# Altium schematic symbol library Connector Power.SchLib: 62 symbols
Pins are listed as number, name and electrical type; pins without a type are passive.

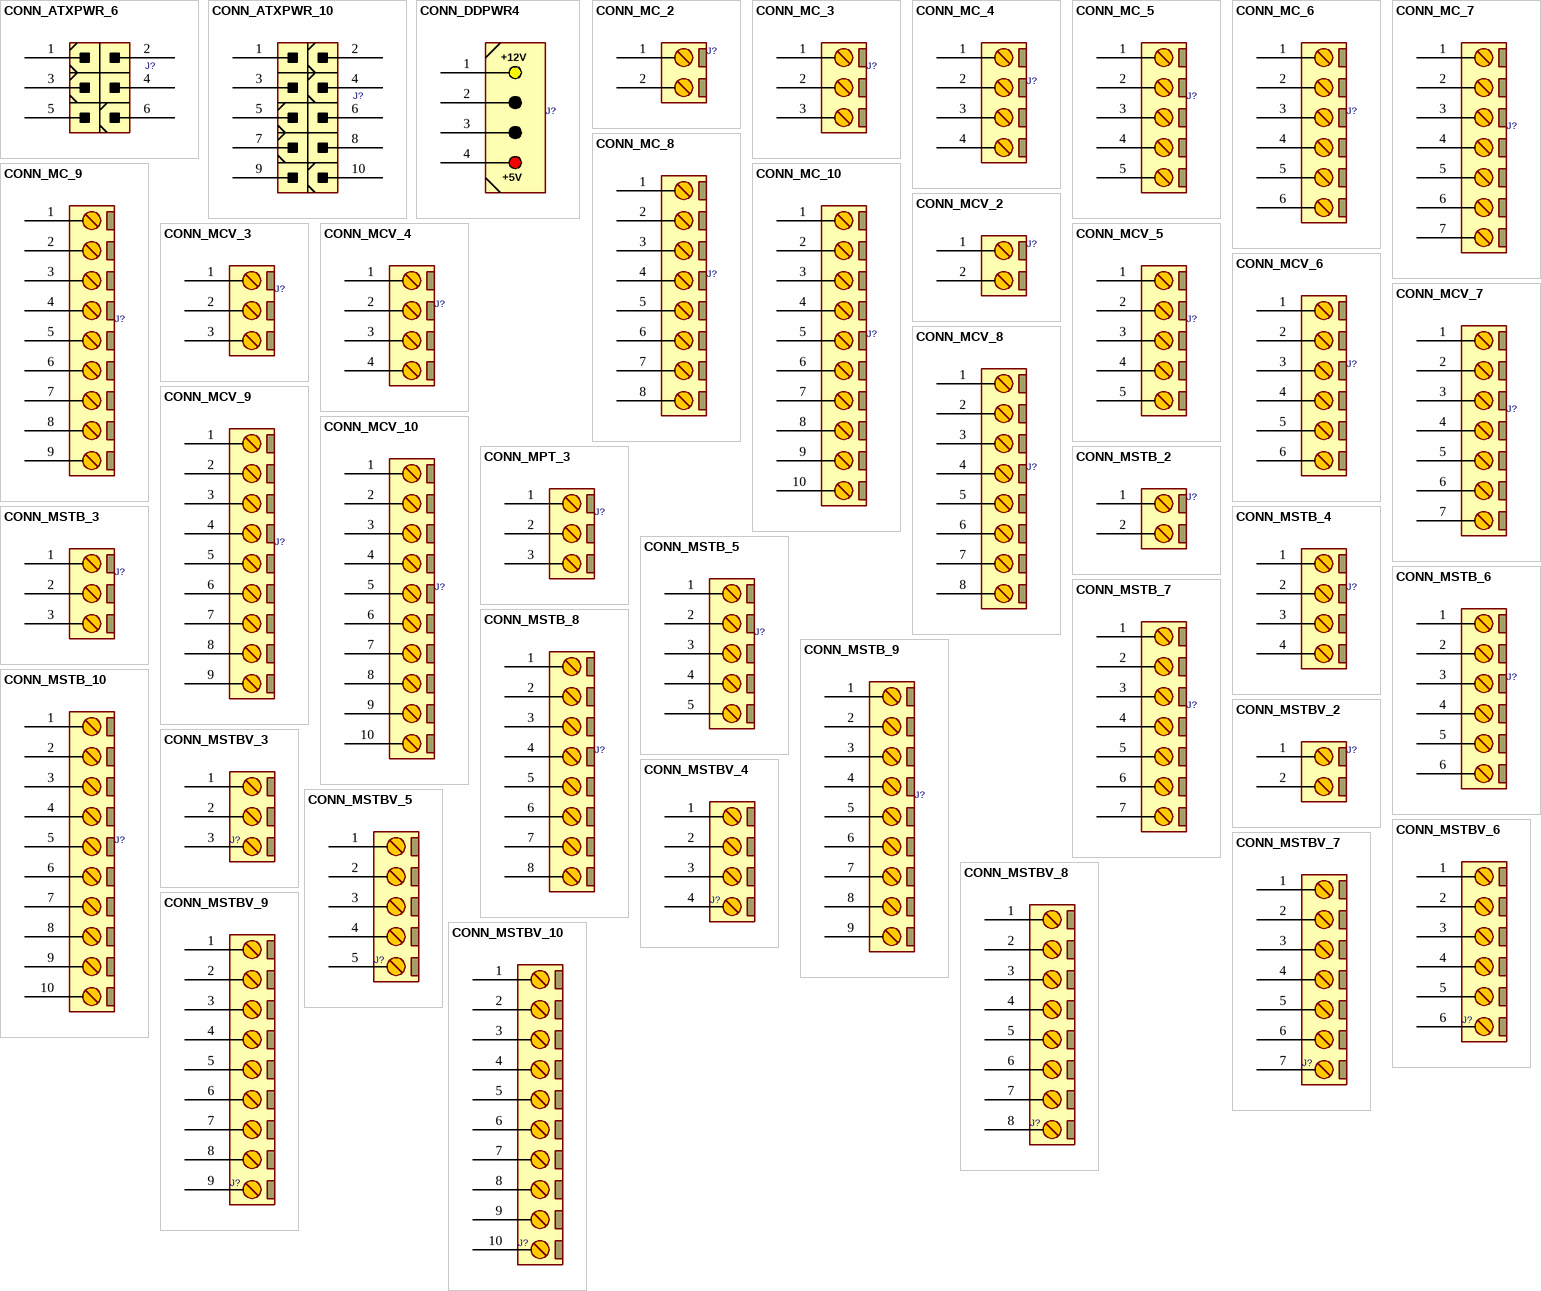
[diagram p0: symbols CONN_ATXPWR_6 to CONN_MSTBV_10]

## CONN_ATXPWR_6
designator J?  (value not drawn)
CONN, ATX POWER, 6 P; MANF: TE; MANF_P#: 4-1775099-1; VALUE: CONN_ATXPWR_6
footprint ATX_PWR6R (PCI Express POWER CONNECTOR 6PIN 12V Right Angle)
footprint ATX_PWR6 (Connector; ATX Power; 6 Position, TE 4-1775099-1)
pins: 1, 2, 3, 4, 5, 6

## CONN_ATXPWR_10
designator J?  (value not drawn)
CONN, ATX POWER, 10 P; MANF: TE; MANF_P#: 4-1775099-3; VALUE: CONN_ATXPWR_10
footprint ATX_PWR10 (Connector; ATX Power; 10 Position, TE 4-1775099-3)
pins: 1, 2, 3, 4, 5, 6, 7, 8, 9, 10

## CONN_DDPWR4
designator J?  (value not drawn)
CONN, DP04PR IDE DISK DRIVE 4pin; MANF: MOLEX; MANF_P#: 15-24-4745, 15-24-4449; VALUE: CONN_DDPWR4
footprint DDPWR4_S (DP04PR IDE DISK DRIVE 4pin power connector Straight Power Plug)
footprint DDPWR4_R (DP04PR IDE DISK DRIVE 4pin power connector Right Angle Power Plug)
pins: 1, 2, 3, 4
text: +12V; +5V

## CONN_MC_2
designator J?, comment CONN_MC2  (value not drawn)
CONN, PHOENIX MC 1.5/2-GF-3.81; VALUE: CONN_MC2; MANF_P#: MC 1.5/2-GF-3.81
footprint MC_2 (PHOENIX MC 1.5/2-GF-3.81)
pins: 1, 2

## CONN_MC_3
designator J?, comment CONN_MC3  (value not drawn)
CONN, PHOENIX MC 1.5/3-GF-3.81; VALUE: CONN_MC3; MANF_P#: MC 1.5/3-GF-3.81
footprint MC_3 (PHOENIX MC 1.5/3-GF-3.81)
pins: 1, 2, 3

## CONN_MC_4
designator J?, comment CONN_MC4  (value not drawn)
CONN, PHOENIX MC 1.5/4-GF-3.81; VALUE: CONN_MC4; MANF_P#: MC 1.5/4-GF-3.81
footprint MC_4 (PHOENIX MC 1.5/4-GF-3.81)
pins: 1, 2, 3, 4

## CONN_MC_5
designator J?, comment CONN_MC5  (value not drawn)
CONN, PHOENIX MC 1.5/5-GF-3.81; VALUE: CONN_MC5; MANF_P#: MC 1.5/5-GF-3.81
footprint MC_5 (PHOENIX MC 1.5/5-GF-3.81)
pins: 1, 2, 3, 4, 5

## CONN_MC_6
designator J?, comment CONN_MC6  (value not drawn)
CONN, PHOENIX MC 1.5/6-GF-3.81; VALUE: CONN_MC6; MANF_P#: MC 1.5/6-GF-3.81
footprint MC_6 (PHOENIX MC 1.5/6-GF-3.81)
pins: 1, 2, 3, 4, 5, 6

## CONN_MC_7
designator J?, comment CONN_MC7  (value not drawn)
CONN, PHOENIX MC 1.5/7-GF-3.81; VALUE: CONN_MC7; MANF_P#: MC 1.5/7-GF-3.81
footprint MC_7 (PHOENIX MC 1.5/7-GF-3.81)
pins: 1, 2, 3, 4, 5, 6, 7

## CONN_MC_8
designator J?, comment CONN_MC8  (value not drawn)
CONN, PHOENIX MC 1.5/8-GF-3.81; VALUE: CONN_MC8; MANF_P#: MC 1.5/8-GF-3.81
footprint MC_8 (PHOENIX MC 1.5/8-GF-3.81)
pins: 1, 2, 3, 4, 5, 6, 7, 8

## CONN_MC_9
designator J?, comment CONN_MC9  (value not drawn)
CONN, PHOENIX MC 1.5/9-GF-3.81; VALUE: CONN_MC9; MANF_P#: MC 1.5/9-GF-3.81
footprint MC_9 (PHOENIX MC 1.5/9-GF-3.81)
pins: 1, 2, 3, 4, 5, 6, 7, 8, 9

## CONN_MC_10
designator J?, comment CONN_MC10  (value not drawn)
CONN, PHOENIX MC 1.5/10-GF-3.81; VALUE: CONN_MC10; MANF_P#: MC 1.5/10-GF-3.81
footprint MC_10 (PHOENIX MC 1.5/10-GF-3.81)
pins: 1, 2, 3, 4, 5, 6, 7, 8, 9, 10

## CONN_MCV_2
designator J?, comment CONN_MCV2  (value not drawn)
CONN, PHOENIX MCV 1.5/2-GF-3.81; VALUE: CONN_MCV2; MANF_P#: MCV 1.5/2-GF-3.81
footprint MCV_2 (PHOENIX MCV 1.5/2-GF-3.81)
pins: 1, 2

## CONN_MCV_3
designator J?, comment CONN_MCV3  (value not drawn)
CONN, PHOENIX MCV 1.5/3-GF-3.81; VALUE: CONN_MCV3; MANF_P#: MCV 1.5/3-GF-3.81
footprint MCV_3 (PHOENIX MCV 1.5/3-GF-3.81)
pins: 1, 2, 3

## CONN_MCV_4
designator J?, comment CONN_MCV4  (value not drawn)
CONN, PHOENIX MCV 1.5/4-GF-3.81; VALUE: CONN_MCV4; MANF_P#: MCV 1.5/4-GF-3.81
footprint MCV_4 (PHOENIX MCV 1.5/4-GF-3.81)
pins: 1, 2, 3, 4

## CONN_MCV_5
designator J?, comment CONN_MCV5  (value not drawn)
CONN, PHOENIX MCV 1.5/5-GF-3.81; VALUE: CONN_MCV5; MANF_P#: MCV 1.5/5-GF-3.81
footprint MCV_5 (PHOENIX MCV 1.5/5-GF-3.81)
pins: 1, 2, 3, 4, 5

## CONN_MCV_6
designator J?, comment CONN_MCV6  (value not drawn)
CONN, PHOENIX MCV 1.5/6-GF-3.81; VALUE: CONN_MCV6; MANF_P#: MCV 1.5/6-GF-3.81
footprint MCV_6 (PHOENIX MCV 1.5/6-GF-3.81)
pins: 1, 2, 3, 4, 5, 6

## CONN_MCV_7
designator J?, comment CONN_MCV7  (value not drawn)
CONN, PHOENIX MCV 1.5/7-GF-3.81; VALUE: CONN_MCV7; MANF_P#: MCV 1.5/7-GF-3.81
footprint MCV_7 (PHOENIX MCV 1.5/7-GF-3.81)
pins: 1, 2, 3, 4, 5, 6, 7

## CONN_MCV_8
designator J?, comment CONN_MCV8  (value not drawn)
CONN, PHOENIX MCV 1.5/8-GF-3.81; VALUE: CONN_MCV8; MANF_P#: MCV 1.5/8-GF-3.81
footprint MCV_8 (PHOENIX MCV 1.5/8-GF-3.81)
pins: 1, 2, 3, 4, 5, 6, 7, 8

## CONN_MCV_9
designator J?, comment CONN_MCV9  (value not drawn)
CONN, PHOENIX MCV 1.5/9-GF-3.81; VALUE: CONN_MCV9; MANF_P#: MCV 1.5/9-GF-3.81
footprint MCV_9 (PHOENIX MCV 1.5/9-GF-3.81)
pins: 1, 2, 3, 4, 5, 6, 7, 8, 9

## CONN_MCV_10
designator J?, comment CONN_MCV10  (value not drawn)
CONN, PHOENIX MCV 1.5/10-GF-3.81; VALUE: CONN_MCV10; MANF_P#: MCV 1.5/10-GF-3.81
footprint MCV_10 (PHOENIX MCV 1.5/10-GF-3.81)
pins: 1, 2, 3, 4, 5, 6, 7, 8, 9, 10

## CONN_MPT_3
designator J?, comment CONN_TB2  (value not drawn)
CONN, PHOENIX MPT, 2.54mm pitch; MANF_P#: 1725669; VALUE: CONN_TB2; MANF: Phoenix; PRICE: 2.4$
footprint MPT_3 (Footprint not found)
pins: 1, 2, 3

## CONN_MSTB_2
designator J?, comment CONN_MSTB2  (value not drawn)
CONN, PHOENIX MSTB 2.5/2-GF-5.08; VALUE: CONN_MSTB2; MANF_P#: MSTB 2.5/2-GF-5.08
footprint MSTB_2 (PHOENIX MSTB 2, 5-G, 5.08mm pitch, 2pin)
pins: 1, 2

## CONN_MSTB_3
designator J?, comment CONN_MSTB3  (value not drawn)
CONN, PHOENIX MSTB 2.5/3-GF-5.08; VALUE: CONN_MSTB3; MANF_P#: MSTB 2.5/3-GF-5.08
footprint MSTB_3 (PHOENIX MSTB 2, 5-G, 5.08mm pitch, 3pin)
pins: 1, 2, 3

## CONN_MSTB_4
designator J?, comment CONN_MSTB4  (value not drawn)
CONN, PHOENIX MSTB 2.5/4-GF-5.08; VALUE: CONN_MSTB4; MANF_P#: MSTB 2.5/4-GF-5.08
footprint MSTB_4 (PHOENIX MSTB 2, 5-G, 5.08mm pitch)
pins: 1, 2, 3, 4

## CONN_MSTB_5
designator J?, comment CONN_MSTB5  (value not drawn)
CONN, PHOENIX MSTB 2.5/5-GF-5.08; VALUE: CONN_MSTB5; MANF_P#: MSTB 2.5/5-GF-5.08
footprint MSTB_5 (PHOENIX MSTB 2, 5-G, 5.08mm pitch)
pins: 1, 2, 3, 4, 5

## CONN_MSTB_6
designator J?, comment CONN_MSTB6  (value not drawn)
CONN, PHOENIX MSTB 2.5/6-GF-5.08; VALUE: CONN_MSTB6; MANF_P#: MSTB 2.5/6-GF-5.08
footprint MSTB_6 (PHOENIX MSTB 2, 5-G, 5.08mm pitch)
pins: 1, 2, 3, 4, 5, 6

## CONN_MSTB_7
designator J?, comment CONN_MSTB7  (value not drawn)
CONN, PHOENIX MSTB 2.5/7-GF-5.08; VALUE: CONN_MSTB7; MANF_P#: MSTB 2.5/7-GF-5.08
footprint MSTB_7 (PHOENIX MSTB 2, 5-G, 5.08mm pitch)
pins: 1, 2, 3, 4, 5, 6, 7

## CONN_MSTB_8
designator J?, comment CONN_MSTB8  (value not drawn)
CONN, PHOENIX MSTB 2.5/8-GF-5.08; VALUE: CONN_MSTB8; MANF_P#: MSTB 2.5/8-GF-5.08
footprint MSTB_8 (PHOENIX MSTB 2, 5-G, 5.08mm pitch)
pins: 1, 2, 3, 4, 5, 6, 7, 8

## CONN_MSTB_9
designator J?, comment CONN_MSTB9  (value not drawn)
CONN, PHOENIX MSTB 2.5/9-GF-5.08; VALUE: CONN_MSTB9; MANF_P#: MSTB 2.5/9-GF-5.08
footprint MSTB_9 (PHOENIX MSTB 2, 5-G, 5.08mm pitch)
pins: 1, 2, 3, 4, 5, 6, 7, 8, 9

## CONN_MSTB_10
designator J?, comment CONN_MSTB10  (value not drawn)
CONN, PHOENIX MSTB 2.5/10-GF-5.08; VALUE: CONN_MSTB10; MANF_P#: MSTB 2.5/10-GF-5.08
footprint MSTB_10 (PHOENIX MSTB 2, 5-G, 5.08mm pitch)
pins: 1, 2, 3, 4, 5, 6, 7, 8, 9, 10

## CONN_MSTBV_2
designator J?, comment CONN_MSTBV2  (value not drawn)
CONN, PHOENIX MSTBV 2.5/2-GF-5.08; VALUE: CONN_MSTBV2; MANF_P#: MSTBV 2.5/2-GF-5.08
footprint MSTBV_2 (PHOENIX MSTBV 2.5/2-GF-5.08)
pins: 1, 2

## CONN_MSTBV_3
designator J?, comment CONN_MSTBV3  (value not drawn)
CONN, PHOENIX MSTBV 2.5/3-GF-5.08; VALUE: CONN_MSTBV3; MANF_P#: MSTBV 2.5/3-GF-5.08
footprint MSTBV_3 (PHOENIX MSTBV 2.5/3-GF-5.08)
pins: 1, 2, 3

## CONN_MSTBV_4
designator J?, comment CONN_MSTBV4  (value not drawn)
CONN, PHOENIX MSTBV 2.5/4-GF-5.08; VALUE: CONN_MSTBV4; MANF_P#: MSTBV 2.5/4-GF-5.08
footprint MSTBV_4 (PHOENIX MSTBV 2.5/4-GF-5.08)
pins: 1, 2, 3, 4

## CONN_MSTBV_5
designator J?, comment CONN_MSTBV5  (value not drawn)
CONN, PHOENIX MSTBV 2.5/5-GF-5.08; VALUE: CONN_MSTBV5; MANF_P#: MSTBV 2.5/5-GF-5.08
footprint MSTBV_5 (PHOENIX MSTBV 2.5/5-GF-5.08)
pins: 1, 2, 3, 4, 5

## CONN_MSTBV_6
designator J?, comment CONN_MSTBV6  (value not drawn)
CONN, PHOENIX MSTBV 2.5/6-GF-5.08; VALUE: CONN_MSTBV6; MANF_P#: MSTBV 2.5/6-GF-5.08
footprint MSTBV_6 (PHOENIX MSTBV 2.5/6-GF-5.08)
pins: 1, 2, 3, 4, 5, 6

## CONN_MSTBV_7
designator J?, comment CONN_MSTBV7  (value not drawn)
CONN, PHOENIX MSTBV 2.5/7-GF-5.08; VALUE: CONN_MSTBV7; MANF_P#: MSTBV 2.5/7-GF-5.08
footprint MSTBV_7 (PHOENIX MSTBV 2.5/7-GF-5.08)
pins: 1, 2, 3, 4, 5, 6, 7

## CONN_MSTBV_8
designator J?, comment CONN_MSTBV8  (value not drawn)
CONN, PHOENIX MSTBV 2.5/8-GF-5.08; VALUE: CONN_MSTBV8; MANF_P#: MSTBV 2.5/8-GF-5.08
footprint MSTBV_8 (PHOENIX MSTBV 2.5/8-GF-5.08)
pins: 1, 2, 3, 4, 5, 6, 7, 8

## CONN_MSTBV_9
designator J?, comment CONN_MSTBV9  (value not drawn)
CONN, PHOENIX MSTBV 2.5/9-GF-5.08; VALUE: CONN_MSTBV9; MANF_P#: MSTBV 2.5/9-GF-5.08
footprint MSTBV_9 (PHOENIX MSTBV 2.5/9-GF-5.08)
pins: 1, 2, 3, 4, 5, 6, 7, 8, 9

## CONN_MSTBV_10
designator J?, comment CONN_MSTBV10  (value not drawn)
CONN, PHOENIX MSTBV 2.5/10-GF-5.08; VALUE: CONN_MSTBV10; MANF_P#: MSTBV 2.5/10-GF-5.08
footprint MSTBV_10 (PHOENIX MSTBV 2.5/10-GF-5.08)
pins: 1, 2, 3, 4, 5, 6, 7, 8, 9, 10

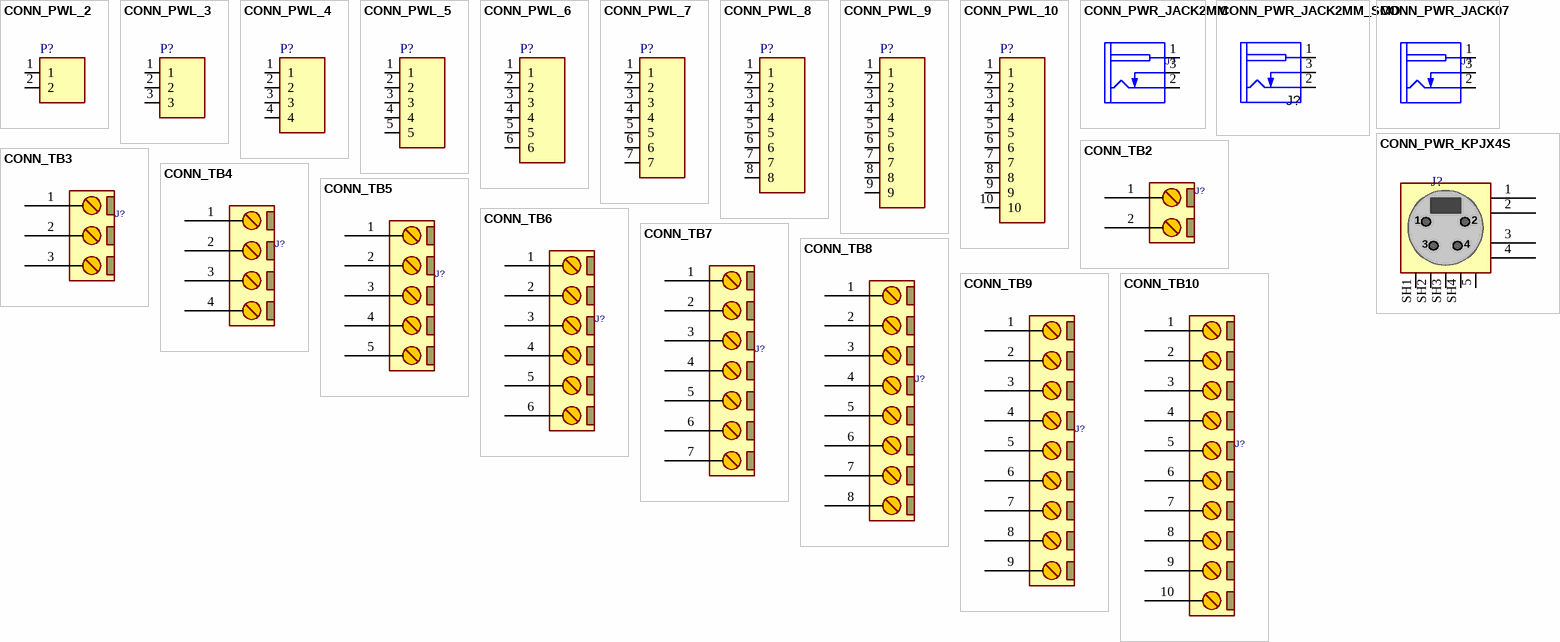
[diagram p1: symbols CONN_PWL_2 to CONN_TB10]

## CONN_PWL_2
designator P?  (value not drawn)
Power Terminal 2pin,Header, 2-Pin; VALUE: CONN_PWL_2
footprint PWL_2 (Connector; Header; 2 Position)
pins: 1, 2

## CONN_PWL_3
designator P?  (value not drawn)
Power Terminal 3pin,Header, 3-Pin; VALUE: CONN_PWL_3
footprint PWL_3 (Connector; Header; 3 Position)
pins: 1, 2, 3

## CONN_PWL_4
designator P?  (value not drawn)
Power Terminal 4pin,Header, 4-Pin; VALUE: CONN_PWL_4
footprint PWL_4 (Connector; Header; 4 Position)
pins: 1, 2, 3, 4

## CONN_PWL_5
designator P?  (value not drawn)
Power Terminal 5pin,Header, 5-Pin; VALUE: CONN_PWL_5
footprint PWL_5 (Connector; Header; 5 Position)
pins: 1, 2, 3, 4, 5

## CONN_PWL_6
designator P?  (value not drawn)
Power Terminal 6pin,Header, 6-Pin; VALUE: CONN_PWL_6
footprint PWL_6 (Connector; Header; 6 Position)
pins: 1, 2, 3, 4, 5, 6

## CONN_PWL_7
designator P?  (value not drawn)
Power Terminal 7pin,Header, 7-Pin; VALUE: CONN_PWL_7
footprint PWL_7 (Connector; Header; 7 Position)
pins: 1, 2, 3, 4, 5, 6, 7

## CONN_PWL_8
designator P?  (value not drawn)
Power Terminal 8pin,Header, 8-Pin; VALUE: CONN_PWL_8
footprint PWL_8 (Connector; Header; 8 Position)
pins: 1, 2, 3, 4, 5, 6, 7, 8

## CONN_PWL_9
designator P?  (value not drawn)
Power Terminal 9pin,Header, 9-Pin; VALUE: CONN_PWL_9
footprint PWL_9 (Connector; Header; 9 Position)
pins: 1, 2, 3, 4, 5, 6, 7, 8, 9

## CONN_PWL_10
designator P?  (value not drawn)
Power Terminal 10pin,Header, 10-Pin; VALUE: CONN_PWL_10
footprint PWL_10 (Connector; Header; 10 Position)
pins: 1, 2, 3, 4, 5, 6, 7, 8, 9, 10

## CONN_PWR_JACK2MM
designator J?, comment DC_POWER_JACK  (value not drawn)
CONN, PWR JACK DC, PLUG DIAM 2.0MM RA THD; MANF: CUI STACK; MANF_P#: PJ-202A, PJ-002AH, PJ-102AH, KLDX-0202; VALUE: DC_POWER_JACK
footprint JAC_PWR2MM (Power Jack KLDX-0202)
pins: 1 TIP (power), 2 SLEEVE (power), 3 INSERTION_DET (power)

## CONN_PWR_JACK2MM_SMD
designator J?, comment PWR_JACK  (value not drawn)
CONN, PWR JACK, SMD  2.0mm x 6.3mm; MANF: CUI Inc; MANF_P#: PJ-036A-SMT; VALUE: PWR_JACK
footprint JAC_PWR2MM_SMD (CUI PJ-036A-SMT)
pins: 1 TIP (power), 2 SLEEVE (power), 3 INSERTION_DET (power)

## CONN_PWR_JACK07
designator J?, comment DC_POWER_JACK  (value not drawn)
CONN, PWR JACK DC, PLUG DIAM 0.7mm , RA THD; MANF: Kobiconn; MANF_P#: 163-4307-E; VALUE: DC_POWER_JACK
footprint JAC_PWR07 (Power Connector, 0.7mm ID, 2.35mm OD)
pins: 1 TIP (power), 2 SLEEVE (power), 3 INSERTION_DET (power)

## CONN_PWR_KPJX4S
designator J?, comment KPJX-4S  (value not drawn)
CONN, PWR, KPJX-4S; MANF_P#: KPJX-4S-S; MANF: Kycon; PARAM: 7.5A; PARAM2: 20V; VALUE: KPJX-4S; PRICE: 5.6$
footprint JAC_PWR_DIN4 (Power Connector, KPJX-4S-S)
pins: 1, 2, 3, 4, 5 GND, SH1, SH2, SH3, SH4

## CONN_TB2
designator J?  (value not drawn)
CONN, TERMINAL BLOCK, 5.08mm pitch; VALUE: CONN_TB2
footprint TBG_2 (Terminal Block Green)
footprint TBB_2 (Terminal Block Blue)
pins: 1, 2

## CONN_TB3
designator J?  (value not drawn)
CONN, TERMINAL BLOCK, 5.08mm pitch; VALUE: CONN_TB3
footprint TBG_3 (Terminal Block Green)
footprint TBB_3 (Terminal Block Blue)
pins: 1, 2, 3

## CONN_TB4
designator J?  (value not drawn)
CONN, TERMINAL BLOCK, 5.08mm pitch; VALUE: CONN_TB4
footprint TBG_4 (Terminal Block Green)
footprint TBB_4 (Terminal Block Blue)
pins: 1, 2, 3, 4

## CONN_TB5
designator J?  (value not drawn)
CONN, TERMINAL BLOCK, 5.08mm pitch; VALUE: CONN_TB5
footprint TBG_5 (Terminal Block Green)
footprint TBB_5 (Terminal Block Blue)
pins: 1, 2, 3, 4, 5

## CONN_TB6
designator J?  (value not drawn)
CONN, TERMINAL BLOCK, 5.08mm pitch; VALUE: CONN_TB6
footprint TBG_6 (Terminal Block Green)
footprint TBB_6 (Terminal Block Blue)
pins: 1, 2, 3, 4, 5, 6

## CONN_TB7
designator J?  (value not drawn)
CONN, TERMINAL BLOCK, 5.08mm pitch; VALUE: CONN_TB7
footprint TBG_7 (Terminal Block Green)
footprint TBB_7 (Terminal Block Blue)
pins: 1, 2, 3, 4, 5, 6, 7

## CONN_TB8
designator J?  (value not drawn)
CONN, TERMINAL BLOCK, 5.08mm pitch; VALUE: CONN_TB8
footprint TBG_8 (Terminal Block Green)
footprint TBB_8 (Terminal Block Blue)
pins: 1, 2, 3, 4, 5, 6, 7, 8

## CONN_TB9
designator J?  (value not drawn)
CONN, TERMINAL BLOCK, 5.08mm pitch; VALUE: CONN_TB9
footprint TBG_9 (Terminal Block Green)
footprint TBB_9 (Terminal Block Blue)
pins: 1, 2, 3, 4, 5, 6, 7, 8, 9

## CONN_TB10
designator J?  (value not drawn)
CONN, TERMINAL BLOCK, 5.08mm pitch; VALUE: CONN_TB10
footprint TBG_10 (Terminal Block Green)
footprint TBB_10 (Terminal Block Blue)
pins: 1, 2, 3, 4, 5, 6, 7, 8, 9, 10